# Altium footprint library cap_rad2.pcblib: 1 footprints
Each footprint in its own frame and in the unit in brackets; x right, y up, seen from the top. Pads: shape width x height; smd on the part's side, far side on the other; paste and mask are expansions set on the pad; w line width, h text height; cw(c..) or ccw(c..) is an arc to the next point about the centre after c.
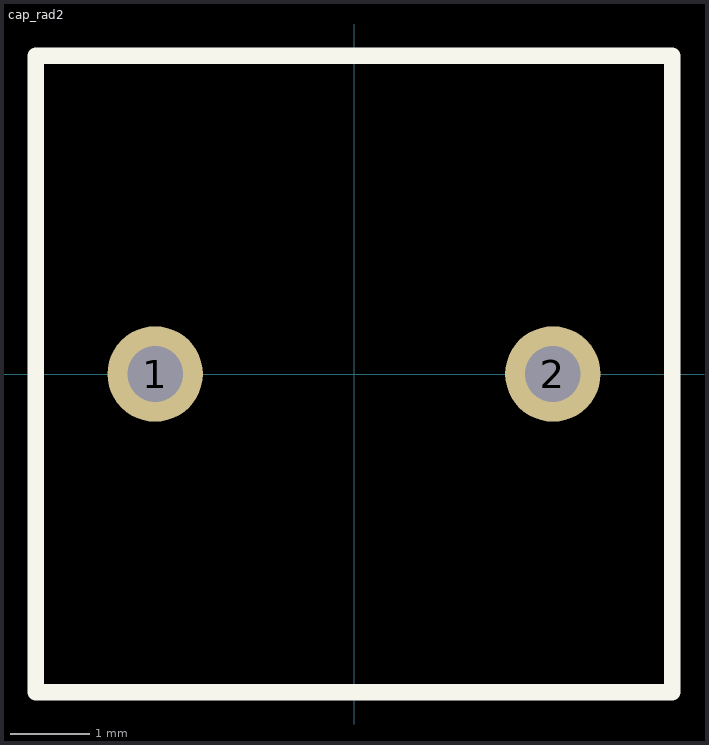
[diagram p0: the footprint, top view; thin cyan lines are the x and y axes]

## cap_rad2 [mm]
pads (2):
  round 1.2 hole 0.7: 1(-2.5,0) 2(2.5,0)
Top Overlay:
  lines w0.203: -4,-4 -4,4 4,4 4,-4 -4,-4